# Altium footprint library SAMTEC_ERM8-020-X-X-DV.PcbLib: 1 footprints
Each footprint in its own frame and in the unit in brackets; x right, y up, seen from the top. Pads: shape width x height; smd on the part's side, far side on the other; paste and mask are expansions set on the pad; w line width, h text height; cw(c..) or ccw(c..) is an arc to the next point about the centre after c.
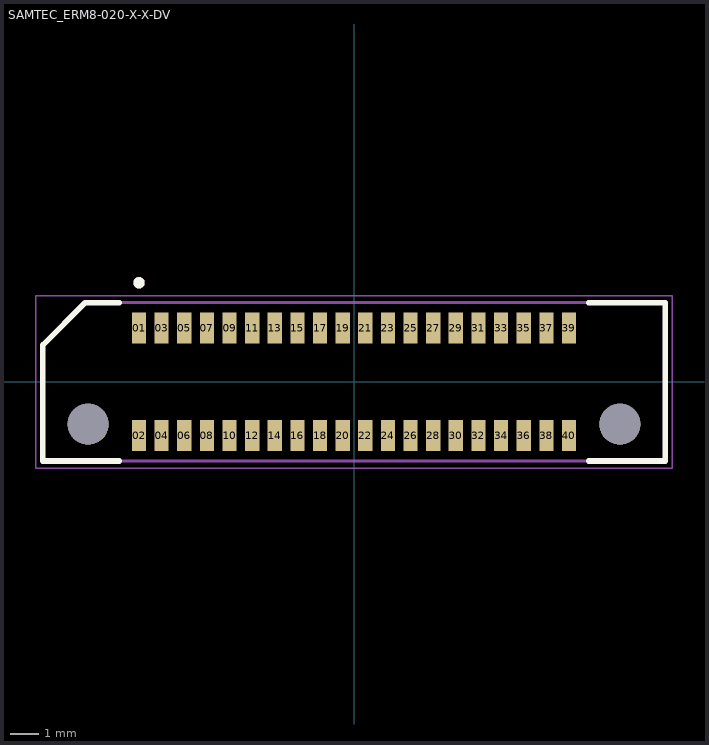
[diagram p0: the footprint, top view; thin cyan lines are the x and y axes]

## SAMTEC_ERM8-020-X-X-DV [mm]
pads (42):
  rect 0.5x1.1 smd: 01(-7.6,1.9) 02(-7.6,-1.9) 03(-6.8,1.9) 04(-6.8,-1.9) 05(-6,1.9) 06(-6,-1.9) 07(-5.2,1.9) 08(-5.2,-1.9) 09(-4.4,1.9) 10(-4.4,-1.9) 11(-3.6,1.9) 12(-3.6,-1.9) 13(-2.8,1.9) 14(-2.8,-1.9) 15(-2,1.9) 16(-2,-1.9) 17(-1.2,1.9) 18(-1.2,-1.9) 19(-0.4,1.9) 20(-0.4,-1.9) 21(0.4,1.9) 22(0.4,-1.9) 23(1.2,1.9) 24(1.2,-1.9) 25(2,1.9) 26(2,-1.9) 27(2.8,1.9) 28(2.8,-1.9) 29(3.6,1.9) 30(3.6,-1.9) 31(4.4,1.9) 32(4.4,-1.9) 33(5.2,1.9) 34(5.2,-1.9) 35(6,1.9) 36(6,-1.9) 37(6.8,1.9) 38(6.8,-1.9) 39(7.6,1.9) 40(7.6,-1.9)
  round 1.45 hole 1.45 unplated: ""(-9.4,-1.5) ""(9.4,-1.5)
Top Overlay:
  circle w0.2: c-7.6,3.5 r0.1
  lines w0.2: -8.3,-2.8 -11,-2.8 -11,1.3 -9.5,2.8 -8.3,2.8 ; 8.3,-2.8 11,-2.8 11,2.8 8.3,2.8
Mechanical 13:
  circle w0.2: c-7.6,3.5 r0.1
  lines w0.1: -11,-2.8 11,-2.8 11,2.8 -9.5,2.8 -11,1.3 -11,-2.8
Mechanical 15:
  lines w0.05: -11.25,-3.05 11.25,-3.05 11.25,3.05 -11.25,3.05 -11.25,-3.05
3D body "ERM8-020-09_0-L-DV-K-TR.stp": height 12.7, standoff -1.26, extent -11,-2.8 11,2.8